# Altium integrated library Device.IntLib: 40 symbols
Pins are listed as number, name and electrical type; pins without a type are passive.

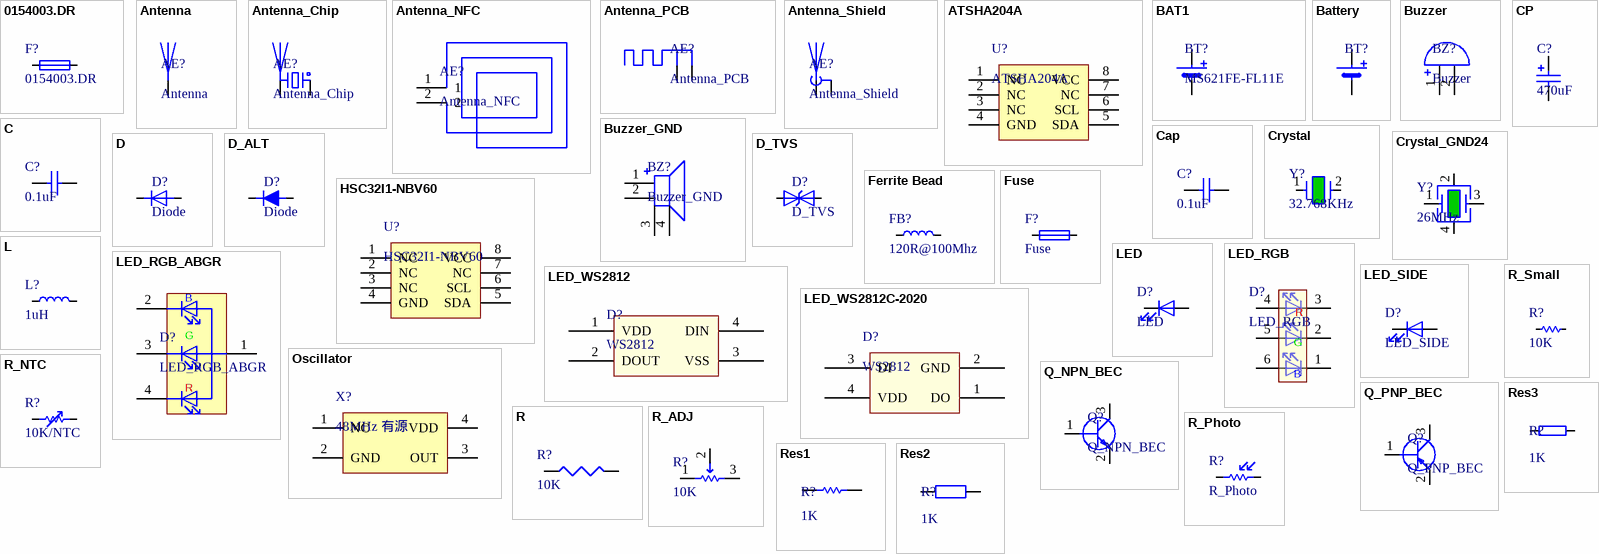
[diagram p0: symbols 0154003.DR to Res3]

## 0154003.DR
designator F?
一次性保险丝
footprint FUSE_SMD_0154
pins: 1, 2

## Antenna
designator AE?
pins: 1

## Antenna_Chip
designator AE?
footprint Texas_SWRA117D_2.4GHz_Right
footprint Texas_SWRA117D_2.4GHz_LEFT
footprint ANT_SMT_5.1x2.0x1.2mm (Chip Capacitor, 2-Leads, Body 5.10x2.00mm, IPC Medium Density)
pins: 1, 2

## Antenna_NFC
designator AE?
footprint NFC_ANT_28x20mm
footprint NFC_ANT_35x28mm
pins: 1, 2

## Antenna_PCB
designator AE?
footprint Texas_SWRA117D_2.4GHz_LEFT
footprint Texas_SWRA117D_2.4GHz_Right
pins: 1 ANT, 2 GND

## Antenna_Shield
designator AE?
pins: 1, 2

## ATSHA204A
designator U?
footprint SO-8_3.9x4.9mm_P1.27mm (SOIC, 8-Leads, Body 4.9x3.90mm, Pitch 1.27mm, IPC Medium Density)
pins: 1 NC, 2 NC, 3 NC, 4 GND, 5 SDA, 6 SCL, 7 NC, 8 VCC

## BAT1
designator BT?, comment MS621FE-FL11E
footprint MS621FE-FL11E
pins: 1 +, 2 -

## Battery
designator BT?  (value not drawn)
Single battery
footprint BatteryHolder_CR1220_SMT_Horizontal
pins: 1 +, 2 -

## Buzzer
designator BZ?
footprint BZ_2P_9mm_P5mm
pins: 1, 2

## Buzzer_GND
designator BZ?
footprint MLT-8530
pins: 1, 2, 3, 4

## C
designator C?, comment 0.1uF
footprint C_0805_2012Metric (Chip Capacitor, 2-Leads, Body 2.00x1.25mm, IPC Medium Density)
footprint C_0603_1608Metric (Chip Capacitor, 2-Leads, Body 1.60x0.80mm, IPC Medium Density)
footprint C_0402_1005Metric (Chip Capacitor, 2-Leads, Body 1.00x0.50mm, IPC Medium Density)
footprint C_1206_3216Metric (Chip Capacitor, 2-Leads, Body 3.20x1.60mm, IPC Medium Density)
footprint C_1210_3225Metric (Chip Capacitor, 2-Leads, Body 3.20x2.50mm, IPC Medium Density)
footprint C_0201_0603Metric_HandSolder (Chip Capacitor, 2-Leads, Body 0.60x0.30mm, IPC Low Density)
footprint C_0201_0603Metric (Chip Capacitor, 2-Leads, Body 0.60x0.30mm, IPC High Density)
pins: 1, 2

## Cap
designator C?, comment 0.1uF
Capacitor
footprint C0201 (Chip Capacitor, 2-Leads, Body 0.60x0.30mm, IPC High Density)
footprint C0402 (Chip Capacitor, 2-Leads, Body 1.00x0.50mm, IPC Medium Density)
footprint C0603 (Chip Capacitor, 2-Leads, Body 1.60x0.80mm, IPC Medium Density)
footprint C0805 (Chip Capacitor, 2-Leads, Body 2.00x1.25mm, IPC Medium Density)
footprint C1206 (Chip Capacitor, 2-Leads, Body 3.20x1.60mm, IPC Medium Density)
footprint C1210 (Chip Capacitor, 2-Leads, Body 3.20x2.50mm, IPC Medium Density)
pins: 1, 2

## CP
designator C?, comment 470uF
Polarized Capacitor (Radial)
footprint CP_Radial_D8.0mm_P3.5mm
footprint CP_Radial_D6.3mm_P2.5mm
footprint C_SMD_8x10.5mm (Aluminum Electrolytic Capacitor, Body 8.30x8.30x10.50mm, IPC Medium Density)
footprint C_SMD_10x12.5mm (Aluminum Electrolytic Capacitor, Body 10.00x10.30x12.50mm, IPC Low Density)
footprint C_SMD_5x5.8mm
footprint C_SMD_6.3x7.7mm (Aluminum Electrolytic Capacitor, Body 6.60x6.60x7.70mm, IPC Low Density)
pins: 1, 2
1 alternate drawing of the same symbol

## Crystal
designator Y?, comment 32.768KHz
Two pin crystal
footprint Crystal_SMD_3215_2Pin_3.2x1.5mm
footprint Crystal_2P_HC-49S
pins: 1, 2

## Crystal_GND24
designator Y?, comment 26MHz
Four pin crystal, GND on pins 2 and 4
footprint Crystal_SMD_SeikoEpson_FA238-4Pin_3.2x2.5mm
footprint Crystal_SMD_4Pin_2.5x2.0mm (Crystal_SMD_SeikoEpson_FA238-4Pin_3.2x2.5mm)
footprint Crystal_SMD_4Pin_2.0x1.6mm
footprint Crystal_SMD_4Pin_1.6x1.2mm
pins: 1, 2, 3, 4

## D
designator D?, comment Diode
pins: 1 K, 2 A

## D_ALT
designator D?, comment Diode
footprint D_SOD-523 (SODFL, 2-Leads, Body 0.80x1.60mm, IPC Medium Density)
pins: 1 K, 2 A

## D_TVS
designator D?
Bidirectional transient-voltage-suppression diode
footprint D_SOD-523 (SODFL, 2-Leads, Body 0.80x1.60mm, IPC Medium Density)
pins: 1 K, 2 A

## Ferrite Bead
designator FB?, comment 120R@100Mhz
磁珠
footprint R_0603_1608Metric (Chip Resistor, 2-Leads, Body 1.60x0.80mm, IPC Medium Density)
footprint R_0805_2012Metric (Chip Resistor, 2-Leads, Body 2.00x1.25mm, IPC Medium Density)
footprint R_0402_1005Metric (Chip Resistor, 2-Leads, Body 1.00x0.50mm, IPC Medium Density)
pins: 1, 2

## Fuse
designator F?
footprint Fuse_0402_1005Metric (Chip Resistor, 2-Leads, Body 1.00x0.50mm, IPC Medium Density)
footprint Fuse_0603_1608Metric (Chip Resistor, 2-Leads, Body 1.60x0.80mm, IPC Medium Density)
footprint Fuse_0805_2012Metric (Chip Resistor, 2-Leads, Body 2.00x1.25mm, IPC Medium Density)
footprint Fuse_1206_3216Metric (Chip Resistor, 2-Leads, Body 3.20x1.60mm, IPC Medium Density)
pins: 1, 2

## HSC32I1-NBV60
designator U?
footprint SO-8_3.9x4.9mm_P1.27mm (SOIC, 8-Leads, Body 4.9x3.90mm, Pitch 1.27mm, IPC Medium Density)
pins: 1 NC, 2 NC, 3 NC, 4 GND, 5 SDA, 6 SCL, 7 NC, 8 VCC

## L
designator L?, comment 1uH
footprint L_0402_1005Metric (Chip Inductor, 2-Leads, Body 1.00x0.50mm, IPC Medium Density)
footprint L_0603_1608Metric (Chip Inductor, 2-Leads, Body 1.60x0.80mm, IPC Medium Density)
footprint L_0805_2012Metric (Chip Inductor, 2-Leads, Body 2.00x1.25mm, IPC Medium Density)
footprint L_SUNLORD_SWPA3015 (Molded Inductor, 2-Leads, Body 3.00x3.00mm, IPC Medium Density)
footprint L_Sunlord_SWPA5040S (Precision Wire Wound Inductor, 2-Leads, Body 5.00x5.00mm, IPC Medium Density)
footprint L_3.5mm_3.0mm_2.1mm (Precision Wire Wound Inductor, 2-Leads, Body 3.50x3.00mm, IPC Medium Density)
footprint L_2520 (Precision Wire Wound Inductor, 2-Leads, Body 2.50x2.00mm, IPC Medium Density)
pins: 1, 2

## LED
designator D?
Light emitting diode
footprint LED_0603_1608Metric (Chip Resistor, 2-Leads, Body 1.60x0.80mm, IPC Medium Density)
footprint LED_0402_1608Metric
pins: 1 K, 2 A

## LED_RGB
designator D?
RGB LED, 6 pin package
footprint LED_RGB_5050-6
pins: 1 K, 2 K, 3 K, 4 A, 5 A, 6 A
text: R; G; B

## LED_RGB_ABGR
designator D?
RGB LED, anode/blue/red/green
footprint LED_RGB_SMD4_1204
pins: 1 A, 2 B, 3 G, 4 R

## LED_SIDE
designator D?
Light emitting diode 侧发光
footprint LED-SMD_L1.7-W0.6-RD
pins: 1 K, 2 A

## LED_WS2812
designator D?, comment WS2812
WS2812E 智能外控集成 LED 光源
footprint LED_SMD4_5050
pins: 1 VDD, 2 DOUT, 3 VSS, 4 DIN

## LED_WS2812C-2020
designator D?, comment WS2812
footprint LED_WS2812C-2020
pins: 1 DO, 2 GND, 3 DI, 4 VDD

## Oscillator
designator X?, comment 48MHz 有源
Oscillator 有源晶振
footprint Crystal_SMD_4Pin_3.2x2.5mm (Crystal_SMD_SeikoEpson_FA238-4Pin_3.2x2.5mm)
footprint Crystal_SMD_4Pin_2.5x2.0mm (Crystal_SMD_SeikoEpson_FA238-4Pin_3.2x2.5mm)
pins: 1 NC, 2 GND, 3 OUT, 4 VDD

## Q_NPN_BEC
designator Q?
NPN transistor, base/emitter/collector
footprint SOT-23 (SOT23, 3-Leads, Body 2.90x2.45mm, Pitch 0.95mm, IPC Medium Density)
pins: 1 B, 2 E, 3 C

## Q_PNP_BEC
designator Q?
PNP transistor, base/emitter/collector
footprint SOT-23 (SOT23, 3-Leads, Body 2.90x2.45mm, Pitch 0.95mm, IPC Medium Density)
pins: 1 B, 2 E, 3 C

## R
designator R?, comment 10K
footprint R_0603_1608Metric (Chip Resistor, 2-Leads, Body 1.60x0.80mm, IPC Medium Density)
footprint R_0805_2012Metric (Chip Resistor, 2-Leads, Body 2.00x1.25mm, IPC Medium Density)
footprint R_1206_3216Metric (Chip Resistor, 2-Leads, Body 3.10x1.55mm, IPC Medium Density)
footprint R_2512_6432Metric (Chip Resistor, 2-Leads, Body 6.40x3.20mm, IPC Medium Density)
footprint R_0402_1005Metric (Chip Resistor, 2-Leads, Body 1.00x0.50mm, IPC Medium Density)
footprint R_0201_0603Metric (Chip Resistor, 2-Leads, Body 0.60x0.30mm, IPC Medium Density)
pins: 1, 2

## R_ADJ
designator R?, comment 10K
footprint RES-ADJ-SMD_3314J
pins: 1, 2, 3

## R_NTC
designator R?, comment 10K/NTC
R_NTC
footprint R_0603_1608Metric (Chip Resistor, 2-Leads, Body 1.60x0.80mm, IPC Medium Density)
pins: 1, 2

## R_Photo
designator R?
光敏电阻
footprint RP_D3.0mm_P0.6mm
pins: 1, 2

## R_Small
designator R?, comment 10K
R small package
footprint R_0402_1005Metric (Chip Resistor, 2-Leads, Body 1.00x0.50mm, IPC Medium Density)
footprint R_0603_1608Metric (Chip Resistor, 2-Leads, Body 1.60x0.80mm, IPC Medium Density)
footprint R_0805_2012Metric (Chip Resistor, 2-Leads, Body 2.00x1.25mm, IPC Medium Density)
pins: 1, 2

## Res1
designator R?, comment 1K
Resistor; Value: 1K
simulation model RESISTOR (Resistor)
signal-integrity model Res
footprint R0201 (Chip Resistor, 2-Leads, Body 0.60x0.30mm, IPC Medium Density)
footprint R0402 (Chip Resistor, 2-Leads, Body 1.00x0.50mm, IPC Medium Density)
footprint R0603 (Chip Resistor, 2-Leads, Body 1.60x0.80mm, IPC Medium Density)
footprint R0805 (Chip Resistor, 2-Leads, Body 2.00x1.25mm, IPC Medium Density)
footprint R1206 (Chip Resistor, 2-Leads, Body 3.10x1.55mm, IPC Medium Density)
footprint R2512 (Chip Resistor, 2-Leads, Body 6.40x3.20mm, IPC Medium Density)
pins: 1, 2

## Res2
designator R?, comment 1K
Resistor
footprint R0201 (Chip Resistor, 2-Leads, Body 0.60x0.30mm, IPC Medium Density)
footprint R0402 (Chip Resistor, 2-Leads, Body 1.00x0.50mm, IPC Medium Density)
footprint R0603 (Chip Resistor, 2-Leads, Body 1.60x0.80mm, IPC Medium Density)
footprint R0805 (Chip Resistor, 2-Leads, Body 2.00x1.25mm, IPC Medium Density)
footprint R1206 (Chip Resistor, 2-Leads, Body 3.10x1.55mm, IPC Medium Density)
footprint R2512 (Chip Resistor, 2-Leads, Body 6.40x3.20mm, IPC Medium Density)
pins: 1, 2

## Res3
designator R?, comment 1K
Resistor
footprint R0201 (Chip Resistor, 2-Leads, Body 0.60x0.30mm, IPC Medium Density)
footprint R0402 (Chip Resistor, 2-Leads, Body 1.00x0.50mm, IPC Medium Density)
footprint R0603 (Chip Resistor, 2-Leads, Body 1.60x0.80mm, IPC Medium Density)
footprint R0805 (Chip Resistor, 2-Leads, Body 2.00x1.25mm, IPC Medium Density)
footprint R1206 (Chip Resistor, 2-Leads, Body 3.10x1.55mm, IPC Medium Density)
footprint R2512 (Chip Resistor, 2-Leads, Body 6.40x3.20mm, IPC Medium Density)
pins: 1, 2